# EAGLE library part 691314520116 (library Wurth_Elektronik_Electromechanic_Terminal_Blocks_Connectors_rev15c)
WR-TBL Serie 314 - 5.08mm Close 45° PCB Header with Flanges , 16 pins=>Code : WR-TBL_314_691314520116 <http://katalog.we-online.de/media/images/eican/WR-TBL_314_691314520103_pf2.jpg> Details see: http://katalog.we-online.de/en/em/691_314_520_1xx Created 2014-06-25, Karrer Zheng 2014 (C) Würth Elektronik
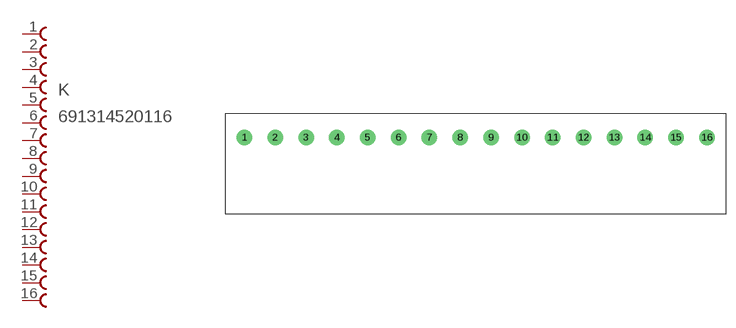
[diagram p162: symbol with the pads of 691314520116; footprint 691314520116]

Designator prefix K

## 691314520116  [691314520116]
1  1  pas
2  2  pas
3  3  pas
4  4  pas
5  5  pas
6  6  pas
7  7  pas
8  8  pas
9  9  pas
10  10  pas
11  11  pas
12  12  pas
13  13  pas
14  14  pas
15  15  pas
16  16  pas

## Footprint 691314520116 (pad centres in mm)
WR-TBL Serie 314 - 5.08mm Close 45° PCB Header with Flanges , 16 pins
drill 1.7: 1 -35.56,0; 2 -30.48,0; 3 -25.4,0; 4 -20.32,0; 5 -15.24,0; 6 -10.16,0; 7 -5.08,0; 8 0,0; 9 5.08,0; 10 10.16,0; 11 15.24,0; 12 20.32,0; 13 25.4,0; 14 30.48,0; 15 35.56,0; 16 40.64,0